# EAGLE library part B6B-ZR (library jst)
JST-ZH Connector 6 pol, 1.5mm pitch Package: B6B-ZR Source: http://www.jst-mfg.com/product/pdf/eng/eZH.pdf
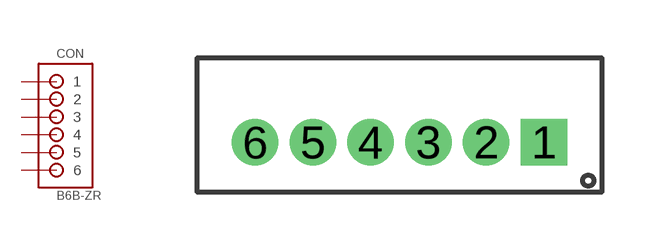
[diagram p0: symbol with the pads of B6B-ZR; footprint B6B-ZR]

Designator prefix CON

## B6B-ZR  [B6B-ZR]
1  1
2  2
3  3
4  4
5  5
6  6

## Footprint B6B-ZR (pad centres in mm)
drill 0.7 square: 1 3.75,0
drill 0.7: 2 2.25,0; 3 0.75,0; 4 -0.75,0; 5 -2.25,0; 6 -3.75,0